# Altium schematic symbol library AMP-OPA-MCP6031-SOT5.SchLib: 1 symbol
Pins are listed as number, name and electrical type; pins without a type are passive.

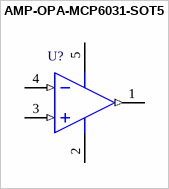
[diagram p0: symbol AMP-OPA-MCP6031-SOT5]

## AMP-OPA-MCP6031-SOT5
designator U?
pins: 1 VOUT (out), 2 VSS (power), 3 VIN+ (in), 4 VIN- (in), 5 VDD (power)